# Altium footprint library DIP-Q  0607.PCBlib: 66 footprints (part 4 of 5)
Each footprint in its own frame and in the unit in brackets; x right, y up, seen from the top. Pads: shape width x height; smd on the part's side, far side on the other; paste and mask are expansions set on the pad; w line width, h text height; cw(c..) or ccw(c..) is an arc to the next point about the centre after c.
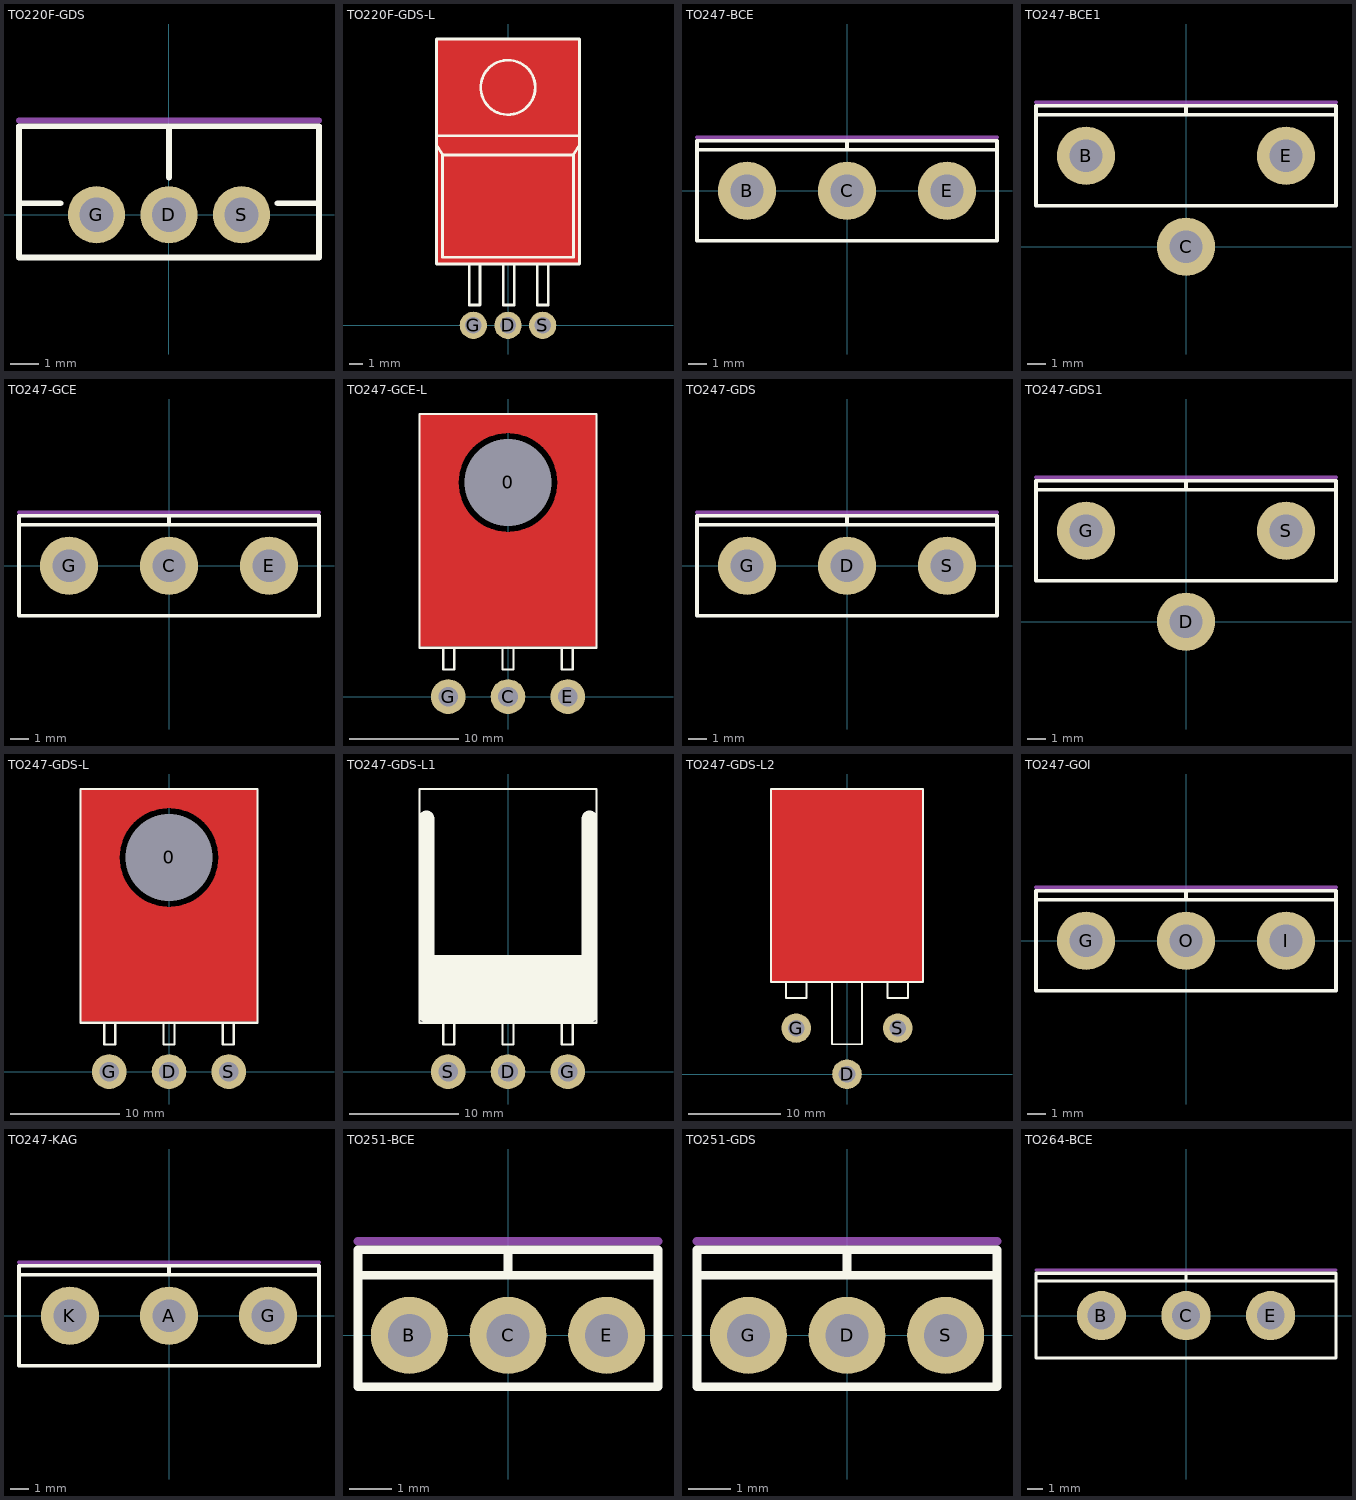
[diagram p3: the footprints below, top view; thin cyan lines are the x and y axes]

## TO220F-GDS [mm]
height 20
pads (3):
  round 2 hole 1.2: D(0,0) G(-2.54,0) S(2.54,0)
Top Overlay:
  lines w0.2: -5.25,0.4 -3.8,0.4 ; 0,1.3 0,3.1 ; 3.8,0.4 5.25,0.4 ; -5.25,-1.5 5.25,-1.5 5.25,3.1 -5.25,3.1 -5.25,-1.5
Bottom Overlay:
  lines w0.3: -1.27,-1 -1.27,1 ; 1.27,-1 1.27,1
Mechanical 7:
  lines w0.2: -5.25,3.3 5.25,3.3

## TO220F-GDS-L [mm]
height 4.6
pads (3):
  round 2 hole 1.2: D(0,0) G(-2.54,0) S(2.54,0)
Top Layer:
  rectangle: -5.25,4.5 5.25,21
Top Overlay:
  circle w0.2: c0,17.45 r2
  lines w0.2: -5.25,13.25 -4.8,12.5 ; -5.25,13.9 5.25,13.9 ; -2.85,4.5 -2.85,1.5 -2.05,1.5 -2.05,4.5 ; -0.35,4.5 -0.35,1.5 0.45,1.5 0.45,4.5 ; 2.15,4.5 2.15,1.5 2.95,1.5 2.95,4.5 ; 5.25,13.25 4.8,12.5 ; -4.8,12.5 4.8,12.5 ; -4.8,12.5 -4.8,5 4.8,5 4.8,12.5 ; -5.25,4.5 5.25,4.5 5.25,21 -5.25,21 -5.25,4.5
Bottom Overlay:
  lines w0.3: -1.25,-1 -1.25,1 ; 1.25,-1 1.25,1

## TO247-BCE [mm]
height 26.1
pads (3):
  round 3.2 hole 1.8: B(-5.5,0) C(0,0) E(5.5,0)
Top Overlay:
  lines w0.2: -8.25,2.25 8.25,2.25 ; 0,2.25 0,2.75 ; -8.25,-2.75 8.25,-2.75 8.25,2.75 -8.25,2.75 -8.25,-2.75
Mechanical 7:
  lines w0.2: -8.25,2.95 8.25,2.95

## TO247-BCE1 [mm]
height 26.1
pads (3):
  round 3.2 hole 1.8: B(-5.5,5) C(0,0) E(5.5,5)
Top Overlay:
  lines w0.2: -8.25,7.25 8.25,7.25 ; 0,7.25 0,7.75 ; -8.25,2.25 -8.25,7.75 8.25,7.75 8.25,2.25 -8.25,2.25
Mechanical 7:
  lines w0.2: -8.25,7.95 8.25,7.95

## TO247-GCE [mm]
height 26.1
pads (3):
  round 3.2 hole 1.8: C(0,0) E(5.5,0) G(-5.5,0)
Top Overlay:
  lines w0.2: -8.25,2.25 8.25,2.25 ; 0,2.25 0,2.75 ; -8.25,-2.75 -8.25,2.75 8.25,2.75 8.25,-2.75 -8.25,-2.75
Mechanical 7:
  lines w0.2: -8.25,2.95 8.25,2.95

## TO247-GCE-L [mm]
height 5.28
pads (4):
  round 7 hole 8 unplated: 0(0,19.7)
  round 3.2 hole 1.8: C(0,0) E(5.5,0) G(-5.5,0)
Top Layer:
  circle w1.8: c0,19.7 r5.441
  rectangle: -8.1,4.6 8.1,15
  rectangle: 4.6,15 8.1,26
  region: -4.6,26 -8.1,26 -8.1,15 -4.6,15
  lines w1: -5.4,25.5 4.8,25.5 5.3,25
  lines w1.5: -5.25,23.5 -3.75,25 3.75,25 4.75,24 ; -4.6,15 -3.85,14.25 3.85,14.25 4.6,15
Top Overlay:
  lines w0.2: -5.95,4.5 -5.95,2.5 -4.95,2.5 -4.95,4.5 ; -0.5,4.5 -0.5,2.5 0.49,2.5 ; 0.5,2.5 0.5,4.5 ; 4.95,4.5 4.95,2.5 5.95,2.5 5.95,4.5 ; -8.15,4.5 -8.15,26 8.15,26 8.15,4.5 -8.15,4.5
Drill Drawing:
  circle w0.2: c0,19.7 r4
  text "NPTH" at -2.25,14 h1.2

## TO247-GDS [mm]
height 26.1
pads (3):
  round 3.2 hole 1.8: D(0,0) G(-5.5,0) S(5.5,0)
Top Overlay:
  lines w0.2: -8.25,2.25 8.25,2.25 ; 0,2.25 0,2.75 ; -8.25,-2.75 -8.25,2.75 8.25,2.75 8.25,-2.75 -8.25,-2.75
Mechanical 7:
  lines w0.2: -8.25,2.95 8.25,2.95

## TO247-GDS1 [mm]
height 26.1
pads (3):
  round 3.2 hole 1.8: D(0,0) G(-5.5,5) S(5.5,5)
Top Overlay:
  lines w0.2: -8.25,7.25 8.25,7.25 ; 0,7.25 0,7.75 ; -8.25,2.25 8.25,2.25 8.25,7.75 -8.25,7.75 -8.25,2.25
Mechanical 7:
  lines w0.2: -8.25,7.95 8.25,7.95

## TO247-GDS-L [mm]
height 5.28
pads (4):
  round 7 hole 8 unplated: 0(0,19.7)
  round 3.2 hole 1.8: D(0,0) G(-5.5,0) S(5.5,0)
Top Layer:
  circle w1.8: c0,19.7 r5.441
  rectangle: -8.1,4.6 8.1,15
  rectangle: 4.6,15 8.1,26
  region: -4.6,26 -8.1,26 -8.1,15 -4.6,15
  lines w1: -5.4,25.5 4.8,25.5
  lines w1.5: -5.25,23.5 -3.75,25 4,25 5.75,23.25 ; -4.85,15.5 -4.1,14.75 ; 4.1,14.75 4.85,15.5
Top Overlay:
  lines w0.2: -5.95,4.5 -5.95,2.5 -4.95,2.5 -4.95,4.5 ; -0.5,4.5 -0.5,2.5 0.49,2.5 ; 0.5,2.5 0.5,4.5 ; 4.95,4.5 4.95,2.5 5.95,2.5 5.95,4.5 ; -8.15,4.5 8.15,4.5 8.15,26 -8.15,26 -8.15,4.5
Drill Drawing:
  circle w0.2: c0,19.7 r4
  text "NPTH" at -2,13.75 h1.2

## TO247-GDS-L1 [mm]
height 5.28
pads (3):
  round 3.2 hole 1.8: D(0,0) G(5.5,0) S(-5.5,0)
Top Overlay:
  lines w0.2: -5.95,4.5 -5.95,2.5 -4.95,2.5 -4.95,4.5 ; -0.5,4.5 -0.5,2.5 0.49,2.5 ; 0.5,2.5 0.5,4.5 ; 4.95,4.5 4.95,2.5 5.95,2.5 5.95,4.5 ; -8.15,4.5 8.15,4.5 8.15,26 -8.15,26 -8.15,4.5
  lines w1.5: -7.5,10 7.5,10 ; -7.5,23.25 -7.5,5.25 7.5,5.25 7.5,23.25
  lines w5: -5.25,7.75 5.25,7.75

## TO247-GDS-L2 [mm]
height 5.28
pads (3):
  round 3.2 hole 1.8: D(0,0) G(-5.5,5) S(5.5,5)
Top Layer:
  rectangle: -8.25,10 8.25,30.9
Top Overlay:
  lines w0.2: -6.625,10 -6.625,8.25 -4.375,8.25 -4.375,10 ; -1.625,10 -1.625,3.25 1.625,3.25 1.625,10 ; 4.375,10 4.375,8.25 6.625,8.25 6.625,10 ; -8.25,10 8.25,10 8.25,30.9 -8.25,30.9 -8.25,10

## TO247-GOI [mm]
height 26.1
pads (3):
  round 3.2 hole 1.8: G(-5.5,0) I(5.5,0) O(0,0)
Top Overlay:
  lines w0.2: -8.25,2.25 8.25,2.25 ; 0,2.25 0,2.75 ; -8.25,-2.75 8.25,-2.75 8.25,2.75 -8.25,2.75 -8.25,-2.75
Mechanical 7:
  lines w0.2: -8.25,2.95 8.25,2.95

## TO247-KAG [mm]
height 26.1
pads (3):
  round 3.2 hole 1.8: A(0,0) G(5.45,0) K(-5.45,0)
Top Overlay:
  lines w0.2: -8.25,2.25 8.25,2.25 ; 0,2.25 0,2.75 ; -8.25,-2.75 -8.25,2.75 8.25,2.75 8.25,-2.75 -8.25,-2.75
Mechanical 7:
  lines w0.2: -8.25,2.95 8.25,2.95

## TO251-BCE [mm]
pads (3):
  round 1.8 hole 1: B(-2.3,0) C(0,0) E(2.3,0)
Top Overlay:
  lines w0.2: -3.5,1.4 3.5,1.4 ; 0,1.4 0,2 ; -3.5,-1.2 3.5,-1.2 3.5,2 -3.5,2 -3.5,-1.2
Bottom Overlay:
  lines w0.3: -1.15,-1 -1.15,1 ; 1.15,-1 1.15,1
Mechanical 7:
  lines w0.2: -3.5,2.2 3.5,2.2

## TO251-GDS [mm]
pads (3):
  round 1.8 hole 1: D(0,0) G(-2.3,0) S(2.3,0)
Top Overlay:
  lines w0.2: -3.5,1.4 3.5,1.4 ; 0,1.4 0,2 ; -3.5,-1.2 3.5,-1.2 3.5,2 -3.5,2 -3.5,-1.2
Bottom Overlay:
  lines w0.3: -1.15,-1 -1.15,1 ; 1.15,-1 1.15,1
Mechanical 7:
  lines w0.2: -3.5,2.2 3.5,2.2

## TO264-BCE [mm]
pads (3):
  round 3.2 hole 1.8: B(-5.5,0) C(0,0) E(5.5,0)
Top Overlay:
  lines w0.2: -9.75,2.25 9.75,2.25 ; 0,2.25 0,2.75 ; -9.75,-2.75 -9.75,2.75 9.75,2.75 9.75,-2.75 -9.75,-2.75
Mechanical 7:
  lines w0.2: -9.75,2.95 9.75,2.95